# Altium footprint library CONN_TBLOCK_8P25to15P0.PcbLib: 118 footprints (part 4 of 8)
Each footprint in its own frame and in the unit in brackets; x right, y up, seen from the top. Pads: shape width x height; smd on the part's side, far side on the other; paste and mask are expansions set on the pad; w line width, h text height; cw(c..) or ccw(c..) is an arc to the next point about the centre after c.
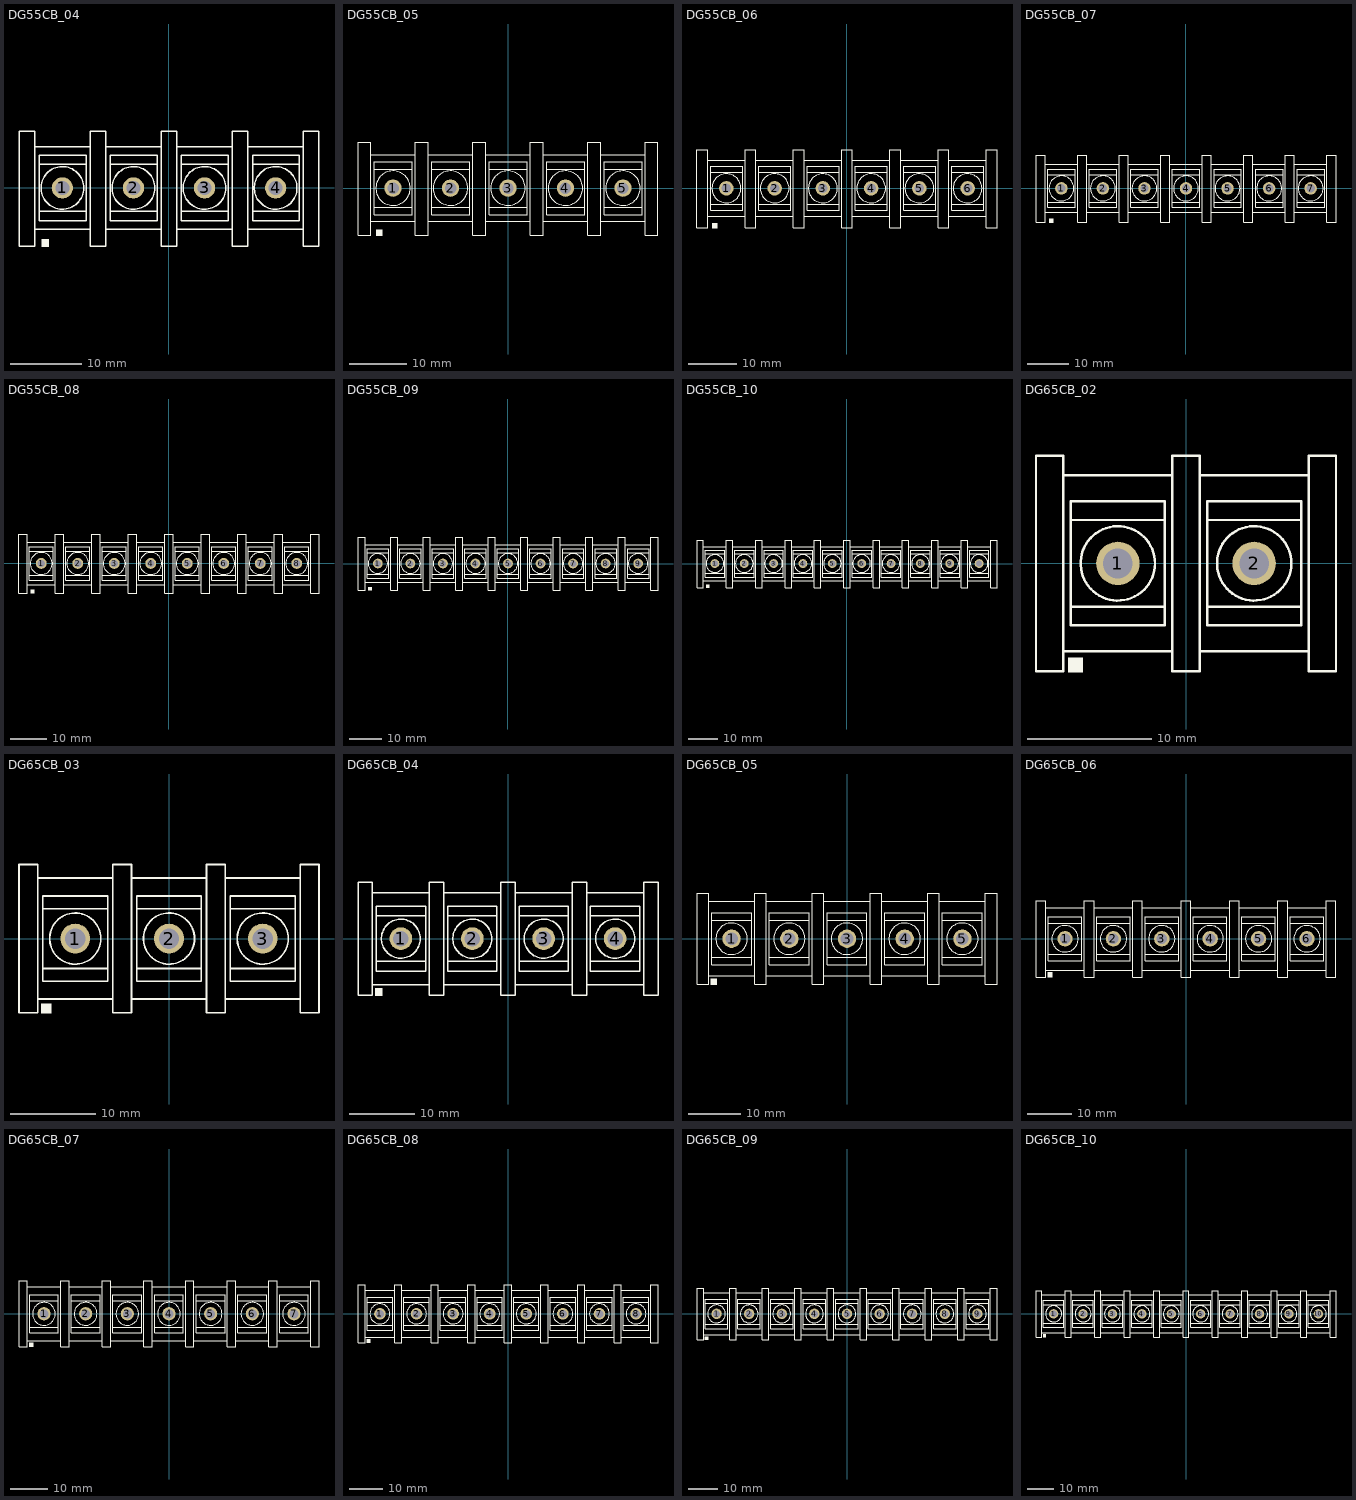
[diagram p3: the footprints below, top view; thin cyan lines are the x and y axes]

## DG55CB_04 [mm] "Terminal Block Screw, Pitch 10mm, 20A/300v, DG55C-B= KF55"
height 18.4
pads (4):
  round 3 / inner round 3 / far side oval 3.5x5 hole 2: 1(-15,0) 2(-5,0) 3(5,0) 4(15,0)
Top Overlay:
  circle w0.2: c-15,0 r3
  circle w0.2: c-5,0 r3
  circle w0.2: c5,0 r3
  circle w0.2: c15,0 r3
  rectangle: -17.95,-8.3 -16.85,-7.2
  lines w0.2: -18.9,-5.8 -11.1,-5.8 ; -18.9,5.8 -11.1,5.8 ; -18.25,-3.3 -11.65,-3.3 ; -18.25,3.3 -11.65,3.3 ; -8.9,-5.8 -1.1,-5.8 ; -8.9,5.8 -1.1,5.8 ; -8.25,-3.3 -1.65,-3.3 ; -8.25,3.3 -1.65,3.3 ; 1.1,-5.8 8.9,-5.8 ; 1.1,5.8 8.9,5.8 ; 1.75,-3.3 8.35,-3.3 ; 1.75,3.3 8.35,3.3 ; 11.1,-5.8 18.9,-5.8 ; 11.1,5.8 18.9,5.8 ; 11.75,-3.3 18.35,-3.3 ; 11.75,3.3 18.35,3.3 ; -21.1,-8.2 -18.9,-8.2 -18.9,8 -21.1,8 -21.1,-8.2 ; -18.25,-4.6 -11.65,-4.6 -11.65,4.6 -18.25,4.6 -18.25,-4.6 ; -11.1,-8.2 -11.1,8 -8.9,8 -8.9,-8.2 -11.1,-8.2 ; -8.25,-4.6 -1.65,-4.6 -1.65,4.6 -8.25,4.6 -8.25,-4.6 ; -1.1,-8.2 -1.1,8 1.1,8 1.1,-8.2 -1.1,-8.2 ; 1.75,-4.6 8.35,-4.6 8.35,4.6 1.75,4.6 1.75,-4.6 ; 8.9,-8.2 8.9,8 11.1,8 11.1,-8.2 8.9,-8.2 ; 11.75,-4.6 18.35,-4.6 18.35,4.6 11.75,4.6 11.75,-4.6 ; 18.9,-8.2 18.9,8 21.1,8 21.1,-8.2 18.9,-8.2
3D body "DG55C-02P.STEP": height 17.43, standoff -6.73, extent -1.028,-8.1 21.028,7.9
3D body "DG55C-02P.STEP": height 17.43, standoff -6.73, extent -21.028,-8.1 1.028,7.9

## DG55CB_05 [mm] "Terminal Block Screw, Pitch 10mm, 20A/300v, DG55C-B= KF55"
height 18.4
pads (5):
  round 3 / inner round 3 / far side oval 3.5x5 hole 2: 1(-20,0) 2(-10,0) 3(0,0) 4(10,0) 5(20,0)
Top Overlay:
  circle w0.2: c20,0 r3
  circle w0.2: c10,0 r3
  circle w0.2: c0,0 r3
  circle w0.2: c-10,0 r3
  circle w0.2: c-20,0 r3
  rectangle: -22.95,-8.3 -21.85,-7.2
  lines w0.2: -23.9,-5.8 -16.1,-5.8 ; -23.9,5.8 -16.1,5.8 ; -23.25,-3.3 -16.65,-3.3 ; -23.25,3.3 -16.65,3.3 ; -13.9,-5.8 -6.1,-5.8 ; -13.9,5.8 -6.1,5.8 ; -13.25,-3.3 -6.65,-3.3 ; -13.25,3.3 -6.65,3.3 ; -3.9,-5.8 3.9,-5.8 ; -3.9,5.8 3.9,5.8 ; -3.25,-3.3 3.35,-3.3 ; -3.25,3.3 3.35,3.3 ; 6.1,-5.8 13.9,-5.8 ; 6.1,5.8 13.9,5.8 ; 6.75,-3.3 13.35,-3.3 ; 6.75,3.3 13.35,3.3 ; 16.1,-5.8 23.9,-5.8 ; 16.1,5.8 23.9,5.8 ; 16.75,-3.3 23.35,-3.3 ; 16.75,3.3 23.35,3.3 ; -26.1,-8.2 -26.1,8 -23.9,8 -23.9,-8.2 -26.1,-8.2 ; -23.25,-4.6 -23.25,4.6 -16.65,4.6 -16.65,-4.6 -23.25,-4.6 ; -16.1,-8.2 -13.9,-8.2 -13.9,8 -16.1,8 -16.1,-8.2 ; -13.25,-4.6 -13.25,4.6 -6.65,4.6 -6.65,-4.6 -13.25,-4.6 ; -6.1,-8.2 -3.9,-8.2 -3.9,8 -6.1,8 -6.1,-8.2 ; -3.25,-4.6 -3.25,4.6 3.35,4.6 3.35,-4.6 -3.25,-4.6 ; 3.9,-8.2 6.1,-8.2 6.1,8 3.9,8 3.9,-8.2 ; 6.75,-4.6 6.75,4.6 13.35,4.6 13.35,-4.6 6.75,-4.6 ; 13.9,-8.2 16.1,-8.2 16.1,8 13.9,8 13.9,-8.2 ; 16.75,-4.6 16.75,4.6 23.35,4.6 23.35,-4.6 16.75,-4.6 ; 23.9,-8.2 26.1,-8.2 26.1,8 23.9,8 23.9,-8.2
3D body "DG55C-02P.STEP": height 17.43, standoff -6.73, extent -26.028,-8.1 -3.972,7.9
3D body "DG55C-02P.STEP": height 17.43, standoff -6.73, extent -6.028,-8.1 16.028,7.9
3D body "DG55C-02P.STEP": height 17.43, standoff -6.73, extent 3.972,-8.1 26.028,7.9

## DG55CB_06 [mm] "Terminal Block Screw, Pitch 10mm, 20A/300v, DG55C-B= KF55"
height 18.4
pads (6):
  round 3 / inner round 3 / far side oval 3.5x5 hole 2: 1(-25,0) 2(-15,0) 3(-5,0) 4(5,0) 5(15,0) 6(25,0)
Top Overlay:
  circle w0.2: c-25,0 r3
  circle w0.2: c-15,0 r3
  circle w0.2: c-5,0 r3
  circle w0.2: c5,0 r3
  circle w0.2: c15,0 r3
  circle w0.2: c25,0 r3
  rectangle: -27.95,-8.3 -26.85,-7.2
  lines w0.2: -28.9,-5.8 -21.1,-5.8 ; -28.9,5.8 -21.1,5.8 ; -28.25,-3.3 -21.65,-3.3 ; -28.25,3.3 -21.65,3.3 ; -18.9,-5.8 -11.1,-5.8 ; -18.9,5.8 -11.1,5.8 ; -18.25,-3.3 -11.65,-3.3 ; -18.25,3.3 -11.65,3.3 ; -8.9,-5.8 -1.1,-5.8 ; -8.9,5.8 -1.1,5.8 ; -8.25,-3.3 -1.65,-3.3 ; -8.25,3.3 -1.65,3.3 ; 1.1,-5.8 8.9,-5.8 ; 1.1,5.8 8.9,5.8 ; 1.75,-3.3 8.35,-3.3 ; 1.75,3.3 8.35,3.3 ; 11.1,-5.8 18.9,-5.8 ; 11.1,5.8 18.9,5.8 ; 11.75,-3.3 18.35,-3.3 ; 11.75,3.3 18.35,3.3 ; 21.1,-5.8 28.9,-5.8 ; 21.1,5.8 28.9,5.8 ; 21.75,-3.3 28.35,-3.3 ; 21.75,3.3 28.35,3.3 ; -31.1,-8.2 -28.9,-8.2 -28.9,8 -31.1,8 -31.1,-8.2 ; -28.25,-4.6 -21.65,-4.6 -21.65,4.6 -28.25,4.6 -28.25,-4.6 ; -21.1,-8.2 -21.1,8 -18.9,8 -18.9,-8.2 -21.1,-8.2 ; -18.25,-4.6 -11.65,-4.6 -11.65,4.6 -18.25,4.6 -18.25,-4.6 ; -11.1,-8.2 -11.1,8 -8.9,8 -8.9,-8.2 -11.1,-8.2 ; -8.25,-4.6 -1.65,-4.6 -1.65,4.6 -8.25,4.6 -8.25,-4.6 ; -1.1,-8.2 -1.1,8 1.1,8 1.1,-8.2 -1.1,-8.2 ; 1.75,-4.6 8.35,-4.6 8.35,4.6 1.75,4.6 1.75,-4.6 ; 8.9,-8.2 8.9,8 11.1,8 11.1,-8.2 8.9,-8.2 ; 11.75,-4.6 18.35,-4.6 18.35,4.6 11.75,4.6 11.75,-4.6 ; 18.9,-8.2 18.9,8 21.1,8 21.1,-8.2 18.9,-8.2 ; 21.75,-4.6 28.35,-4.6 28.35,4.6 21.75,4.6 21.75,-4.6 ; 28.9,-8.2 28.9,8 31.1,8 31.1,-8.2 28.9,-8.2
3D body "DG55C-02P.STEP": height 17.43, standoff -6.73, extent 8.972,-8.1 31.028,7.9
3D body "DG55C-02P.STEP": height 17.43, standoff -6.73, extent -11.028,-8.1 11.028,7.9
3D body "DG55C-02P.STEP": height 17.43, standoff -6.73, extent -31.028,-8.1 -8.972,7.9

## DG55CB_07 [mm] "Terminal Block Screw, Pitch 10mm, 20A/300v, DG55C-B= KF55"
height 18.4
pads (7):
  round 3 / inner round 3 / far side oval 3.5x5 hole 2: 1(-30,0) 2(-20,0) 3(-10,0) 4(0,0) 5(10,0) 6(20,0) 7(30,0)
Top Overlay:
  circle w0.2: c-30,0 r3
  circle w0.2: c-20,0 r3
  circle w0.2: c-10,0 r3
  circle w0.2: c0,0 r3
  circle w0.2: c10,0 r3
  circle w0.2: c20,0 r3
  circle w0.2: c30,0 r3
  rectangle: -32.95,-8.3 -31.85,-7.2
  lines w0.2: -33.9,-5.8 -26.1,-5.8 ; -33.9,5.8 -26.1,5.8 ; -33.25,-3.3 -26.65,-3.3 ; -33.25,3.3 -26.65,3.3 ; -23.9,-5.8 -16.1,-5.8 ; -23.9,5.8 -16.1,5.8 ; -23.25,-3.3 -16.65,-3.3 ; -23.25,3.3 -16.65,3.3 ; -13.9,-5.8 -6.1,-5.8 ; -13.9,5.8 -6.1,5.8 ; -13.25,-3.3 -6.65,-3.3 ; -13.25,3.3 -6.65,3.3 ; -3.9,-5.8 3.9,-5.8 ; -3.9,5.8 3.9,5.8 ; -3.25,-3.3 3.35,-3.3 ; -3.25,3.3 3.35,3.3 ; 6.1,-5.8 13.9,-5.8 ; 6.1,5.8 13.9,5.8 ; 6.75,-3.3 13.35,-3.3 ; 6.75,3.3 13.35,3.3 ; 16.1,-5.8 23.9,-5.8 ; 16.1,5.8 23.9,5.8 ; 16.75,-3.3 23.35,-3.3 ; 16.75,3.3 23.35,3.3 ; 26.1,-5.8 33.9,-5.8 ; 26.1,5.8 33.9,5.8 ; 26.75,-3.3 33.35,-3.3 ; 26.75,3.3 33.35,3.3 ; -36.1,-8.2 -33.9,-8.2 -33.9,8 -36.1,8 -36.1,-8.2 ; -33.25,-4.6 -26.65,-4.6 -26.65,4.6 -33.25,4.6 -33.25,-4.6 ; -26.1,-8.2 -26.1,8 -23.9,8 -23.9,-8.2 -26.1,-8.2 ; -23.25,-4.6 -16.65,-4.6 -16.65,4.6 -23.25,4.6 -23.25,-4.6 ; -16.1,-8.2 -16.1,8 -13.9,8 -13.9,-8.2 -16.1,-8.2 ; -13.25,-4.6 -6.65,-4.6 -6.65,4.6 -13.25,4.6 -13.25,-4.6 ; -6.1,-8.2 -6.1,8 -3.9,8 -3.9,-8.2 -6.1,-8.2 ; -3.25,-4.6 3.35,-4.6 3.35,4.6 -3.25,4.6 -3.25,-4.6 ; 3.9,-8.2 3.9,8 6.1,8 6.1,-8.2 3.9,-8.2 ; 6.75,-4.6 13.35,-4.6 13.35,4.6 6.75,4.6 6.75,-4.6 ; 13.9,-8.2 13.9,8 16.1,8 16.1,-8.2 13.9,-8.2 ; 16.75,-4.6 23.35,-4.6 23.35,4.6 16.75,4.6 16.75,-4.6 ; 23.9,-8.2 23.9,8 26.1,8 26.1,-8.2 23.9,-8.2 ; 26.75,-4.6 33.35,-4.6 33.35,4.6 26.75,4.6 26.75,-4.6 ; 33.9,-8.2 33.9,8 36.1,8 36.1,-8.2 33.9,-8.2
3D body "DG55C-02P.STEP": height 17.43, standoff -6.73, extent 13.972,-8.1 36.028,7.9
3D body "DG55C-02P.STEP": height 17.43, standoff -6.73, extent 3.972,-8.1 26.028,7.9
3D body "DG55C-02P.STEP": height 17.43, standoff -6.73, extent -16.028,-8.1 6.028,7.9
3D body "DG55C-02P.STEP": height 17.43, standoff -6.73, extent -36.028,-8.1 -13.972,7.9

## DG55CB_08 [mm] "Terminal Block Screw, Pitch 10mm, 20A/300v, DG55C-B= KF55"
height 18.4
pads (8):
  round 3 / inner round 3 / far side oval 3.5x5 hole 2: 1(-35,0) 2(-25,0) 3(-15,0) 4(-5,0) 5(5,0) 6(15,0) 7(25,0) 8(35,0)
Top Overlay:
  circle w0.2: c35,0 r3
  circle w0.2: c25,0 r3
  circle w0.2: c15,0 r3
  circle w0.2: c5,0 r3
  circle w0.2: c-5,0 r3
  circle w0.2: c-15,0 r3
  circle w0.2: c-25,0 r3
  circle w0.2: c-35,0 r3
  rectangle: -37.95,-8.3 -36.85,-7.2
  lines w0.2: -38.9,-5.8 -31.1,-5.8 ; -38.9,5.8 -31.1,5.8 ; -38.25,-3.3 -31.65,-3.3 ; -38.25,3.3 -31.65,3.3 ; -28.9,-5.8 -21.1,-5.8 ; -28.9,5.8 -21.1,5.8 ; -28.25,-3.3 -21.65,-3.3 ; -28.25,3.3 -21.65,3.3 ; -18.9,-5.8 -11.1,-5.8 ; -18.9,5.8 -11.1,5.8 ; -18.25,-3.3 -11.65,-3.3 ; -18.25,3.3 -11.65,3.3 ; -8.9,-5.8 -1.1,-5.8 ; -8.9,5.8 -1.1,5.8 ; -8.25,-3.3 -1.65,-3.3 ; -8.25,3.3 -1.65,3.3 ; 1.1,-5.8 8.9,-5.8 ; 1.1,5.8 8.9,5.8 ; 1.75,-3.3 8.35,-3.3 ; 1.75,3.3 8.35,3.3 ; 11.1,-5.8 18.9,-5.8 ; 11.1,5.8 18.9,5.8 ; 11.75,-3.3 18.35,-3.3 ; 11.75,3.3 18.35,3.3 ; 21.1,-5.8 28.9,-5.8 ; 21.1,5.8 28.9,5.8 ; 21.75,-3.3 28.35,-3.3 ; 21.75,3.3 28.35,3.3 ; 31.1,-5.8 38.9,-5.8 ; 31.1,5.8 38.9,5.8 ; 31.75,-3.3 38.35,-3.3 ; 31.75,3.3 38.35,3.3 ; -41.1,-8.2 -41.1,8 -38.9,8 -38.9,-8.2 -41.1,-8.2 ; -38.25,-4.6 -38.25,4.6 -31.65,4.6 -31.65,-4.6 -38.25,-4.6 ; -31.1,-8.2 -28.9,-8.2 -28.9,8 -31.1,8 -31.1,-8.2 ; -28.25,-4.6 -28.25,4.6 -21.65,4.6 -21.65,-4.6 -28.25,-4.6 ; -21.1,-8.2 -18.9,-8.2 -18.9,8 -21.1,8 -21.1,-8.2 ; -18.25,-4.6 -18.25,4.6 -11.65,4.6 -11.65,-4.6 -18.25,-4.6 ; -11.1,-8.2 -8.9,-8.2 -8.9,8 -11.1,8 -11.1,-8.2 ; -8.25,-4.6 -8.25,4.6 -1.65,4.6 -1.65,-4.6 -8.25,-4.6 ; -1.1,-8.2 1.1,-8.2 1.1,8 -1.1,8 -1.1,-8.2 ; 1.75,-4.6 1.75,4.6 8.35,4.6 8.35,-4.6 1.75,-4.6 ; 8.9,-8.2 11.1,-8.2 11.1,8 8.9,8 8.9,-8.2 ; 11.75,-4.6 11.75,4.6 18.35,4.6 18.35,-4.6 11.75,-4.6 ; 18.9,-8.2 21.1,-8.2 21.1,8 18.9,8 18.9,-8.2 ; 21.75,-4.6 21.75,4.6 28.35,4.6 28.35,-4.6 21.75,-4.6 ; 28.9,-8.2 31.1,-8.2 31.1,8 28.9,8 28.9,-8.2 ; 31.75,-4.6 31.75,4.6 38.35,4.6 38.35,-4.6 31.75,-4.6 ; 38.9,-8.2 41.1,-8.2 41.1,8 38.9,8 38.9,-8.2
3D body "DG55C-02P.STEP": height 17.43, standoff -6.73, extent -41.028,-8.1 -18.972,7.9
3D body "DG55C-02P.STEP": height 17.43, standoff -6.73, extent -21.028,-8.1 1.028,7.9
3D body "DG55C-02P.STEP": height 17.43, standoff -6.73, extent -1.028,-8.1 21.028,7.9
3D body "DG55C-02P.STEP": height 17.43, standoff -6.73, extent 18.972,-8.1 41.028,7.9

## DG55CB_09 [mm] "Terminal Block Screw, Pitch 10mm, 20A/300v, DG55C-B= KF55"
height 18.4
pads (9):
  round 3 / inner round 3 / far side oval 3.5x5 hole 2: 1(-40,0) 2(-30,0) 3(-20,0) 4(-10,0) 5(0,0) 6(10,0) 7(20,0) 8(30,0) 9(40,0)
Top Overlay:
  circle w0.2: c40,0 r3
  circle w0.2: c30,0 r3
  circle w0.2: c20,0 r3
  circle w0.2: c10,0 r3
  circle w0.2: c0,0 r3
  circle w0.2: c-10,0 r3
  circle w0.2: c-20,0 r3
  circle w0.2: c-30,0 r3
  circle w0.2: c-40,0 r3
  rectangle: -42.95,-8.3 -41.85,-7.2
  lines w0.2: -43.9,-5.8 -36.1,-5.8 ; -43.9,5.8 -36.1,5.8 ; -43.25,-3.3 -36.65,-3.3 ; -43.25,3.3 -36.65,3.3 ; -33.9,-5.8 -26.1,-5.8 ; -33.9,5.8 -26.1,5.8 ; -33.25,-3.3 -26.65,-3.3 ; -33.25,3.3 -26.65,3.3 ; -23.9,-5.8 -16.1,-5.8 ; -23.9,5.8 -16.1,5.8 ; -23.25,-3.3 -16.65,-3.3 ; -23.25,3.3 -16.65,3.3 ; -13.9,-5.8 -6.1,-5.8 ; -13.9,5.8 -6.1,5.8 ; -13.25,-3.3 -6.65,-3.3 ; -13.25,3.3 -6.65,3.3 ; -3.9,-5.8 3.9,-5.8 ; -3.9,5.8 3.9,5.8 ; -3.25,-3.3 3.35,-3.3 ; -3.25,3.3 3.35,3.3 ; 6.1,-5.8 13.9,-5.8 ; 6.1,5.8 13.9,5.8 ; 6.75,-3.3 13.35,-3.3 ; 6.75,3.3 13.35,3.3 ; 16.1,-5.8 23.9,-5.8 ; 16.1,5.8 23.9,5.8 ; 16.75,-3.3 23.35,-3.3 ; 16.75,3.3 23.35,3.3 ; 26.1,-5.8 33.9,-5.8 ; 26.1,5.8 33.9,5.8 ; 26.75,-3.3 33.35,-3.3 ; 26.75,3.3 33.35,3.3 ; 36.1,-5.8 43.9,-5.8 ; 36.1,5.8 43.9,5.8 ; 36.75,-3.3 43.35,-3.3 ; 36.75,3.3 43.35,3.3 ; -46.1,-8.2 -46.1,8 -43.9,8 -43.9,-8.2 -46.1,-8.2 ; -43.25,-4.6 -43.25,4.6 -36.65,4.6 -36.65,-4.6 -43.25,-4.6 ; -36.1,-8.2 -33.9,-8.2 -33.9,8 -36.1,8 -36.1,-8.2 ; -33.25,-4.6 -33.25,4.6 -26.65,4.6 -26.65,-4.6 -33.25,-4.6 ; -26.1,-8.2 -23.9,-8.2 -23.9,8 -26.1,8 -26.1,-8.2 ; -23.25,-4.6 -23.25,4.6 -16.65,4.6 -16.65,-4.6 -23.25,-4.6 ; -16.1,-8.2 -13.9,-8.2 -13.9,8 -16.1,8 -16.1,-8.2 ; -13.25,-4.6 -13.25,4.6 -6.65,4.6 -6.65,-4.6 -13.25,-4.6 ; -6.1,-8.2 -3.9,-8.2 -3.9,8 -6.1,8 -6.1,-8.2 ; -3.25,-4.6 -3.25,4.6 3.35,4.6 3.35,-4.6 -3.25,-4.6 ; 3.9,-8.2 6.1,-8.2 6.1,8 3.9,8 3.9,-8.2 ; 6.75,-4.6 6.75,4.6 13.35,4.6 13.35,-4.6 6.75,-4.6 ; 13.9,-8.2 16.1,-8.2 16.1,8 13.9,8 13.9,-8.2 ; 16.75,-4.6 16.75,4.6 23.35,4.6 23.35,-4.6 16.75,-4.6 ; 23.9,-8.2 26.1,-8.2 26.1,8 23.9,8 23.9,-8.2 ; 26.75,-4.6 26.75,4.6 33.35,4.6 33.35,-4.6 26.75,-4.6 ; 33.9,-8.2 36.1,-8.2 36.1,8 33.9,8 33.9,-8.2 ; 36.75,-4.6 36.75,4.6 43.35,4.6 43.35,-4.6 36.75,-4.6 ; 43.9,-8.2 46.1,-8.2 46.1,8 43.9,8 43.9,-8.2
3D body "DG55C-02P.STEP": height 17.43, standoff -6.73, extent -46.028,-8.1 -23.972,7.9
3D body "DG55C-02P.STEP": height 17.43, standoff -6.73, extent -26.028,-8.1 -3.972,7.9
3D body "DG55C-02P.STEP": height 17.43, standoff -6.73, extent -6.028,-8.1 16.028,7.9
3D body "DG55C-02P.STEP": height 17.43, standoff -6.73, extent 13.972,-8.1 36.028,7.9
3D body "DG55C-02P.STEP": height 17.43, standoff -6.73, extent 23.972,-8.1 46.028,7.9

## DG55CB_10 [mm] "Terminal Block Screw, Pitch 10mm, 20A/300v, DG55C-B= KF55"
height 18.4
pads (10):
  round 3 / inner round 3 / far side oval 3.5x5 hole 2: 1(-45,0) 2(-35,0) 3(-25,0) 4(-15,0) 5(-5,0) 6(5,0) 7(15,0) 8(25,0) 9(35,0) 10(45,0)
Top Overlay:
  circle w0.2: c-45,0 r3
  circle w0.2: c-35,0 r3
  circle w0.2: c-25,0 r3
  circle w0.2: c-15,0 r3
  circle w0.2: c-5,0 r3
  circle w0.2: c5,0 r3
  circle w0.2: c15,0 r3
  circle w0.2: c25,0 r3
  circle w0.2: c35,0 r3
  circle w0.2: c45,0 r3
  rectangle: -47.95,-8.3 -46.85,-7.2
  lines w0.2: -48.9,-5.8 -41.1,-5.8 ; -48.9,5.8 -41.1,5.8 ; -48.25,-3.3 -41.65,-3.3 ; -48.25,3.3 -41.65,3.3 ; -38.9,-5.8 -31.1,-5.8 ; -38.9,5.8 -31.1,5.8 ; -38.25,-3.3 -31.65,-3.3 ; -38.25,3.3 -31.65,3.3 ; -28.9,-5.8 -21.1,-5.8 ; -28.9,5.8 -21.1,5.8 ; -28.25,-3.3 -21.65,-3.3 ; -28.25,3.3 -21.65,3.3 ; -18.9,-5.8 -11.1,-5.8 ; -18.9,5.8 -11.1,5.8 ; -18.25,-3.3 -11.65,-3.3 ; -18.25,3.3 -11.65,3.3 ; -8.9,-5.8 -1.1,-5.8 ; -8.9,5.8 -1.1,5.8 ; -8.25,-3.3 -1.65,-3.3 ; -8.25,3.3 -1.65,3.3 ; 1.1,-5.8 8.9,-5.8 ; 1.1,5.8 8.9,5.8 ; 1.75,-3.3 8.35,-3.3 ; 1.75,3.3 8.35,3.3 ; 11.1,-5.8 18.9,-5.8 ; 11.1,5.8 18.9,5.8 ; 11.75,-3.3 18.35,-3.3 ; 11.75,3.3 18.35,3.3 ; 21.1,-5.8 28.9,-5.8 ; 21.1,5.8 28.9,5.8 ; 21.75,-3.3 28.35,-3.3 ; 21.75,3.3 28.35,3.3 ; 31.1,-5.8 38.9,-5.8 ; 31.1,5.8 38.9,5.8 ; 31.75,-3.3 38.35,-3.3 ; 31.75,3.3 38.35,3.3 ; 41.1,-5.8 48.9,-5.8 ; 41.1,5.8 48.9,5.8 ; 41.75,-3.3 48.35,-3.3 ; 41.75,3.3 48.35,3.3 ; -51.1,-8.2 -48.9,-8.2 -48.9,8 -51.1,8 -51.1,-8.2 ; -48.25,-4.6 -41.65,-4.6 -41.65,4.6 -48.25,4.6 -48.25,-4.6 ; -41.1,-8.2 -41.1,8 -38.9,8 -38.9,-8.2 -41.1,-8.2 ; -38.25,-4.6 -31.65,-4.6 -31.65,4.6 -38.25,4.6 -38.25,-4.6 ; -31.1,-8.2 -31.1,8 -28.9,8 -28.9,-8.2 -31.1,-8.2 ; -28.25,-4.6 -21.65,-4.6 -21.65,4.6 -28.25,4.6 -28.25,-4.6 ; -21.1,-8.2 -21.1,8 -18.9,8 -18.9,-8.2 -21.1,-8.2 ; -18.25,-4.6 -11.65,-4.6 -11.65,4.6 -18.25,4.6 -18.25,-4.6 ; -11.1,-8.2 -11.1,8 -8.9,8 -8.9,-8.2 -11.1,-8.2 ; -8.25,-4.6 -1.65,-4.6 -1.65,4.6 -8.25,4.6 -8.25,-4.6 ; -1.1,-8.2 -1.1,8 1.1,8 1.1,-8.2 -1.1,-8.2 ; 1.75,-4.6 8.35,-4.6 8.35,4.6 1.75,4.6 1.75,-4.6 ; 8.9,-8.2 8.9,8 11.1,8 11.1,-8.2 8.9,-8.2 ; 11.75,-4.6 18.35,-4.6 18.35,4.6 11.75,4.6 11.75,-4.6 ; 18.9,-8.2 18.9,8 21.1,8 21.1,-8.2 18.9,-8.2 ; 21.75,-4.6 28.35,-4.6 28.35,4.6 21.75,4.6 21.75,-4.6 ; 28.9,-8.2 28.9,8 31.1,8 31.1,-8.2 28.9,-8.2 ; 31.75,-4.6 38.35,-4.6 38.35,4.6 31.75,4.6 31.75,-4.6 ; 38.9,-8.2 38.9,8 41.1,8 41.1,-8.2 38.9,-8.2 ; 41.75,-4.6 48.35,-4.6 48.35,4.6 41.75,4.6 41.75,-4.6 ; 48.9,-8.2 48.9,8 51.1,8 51.1,-8.2 48.9,-8.2
3D body "DG55C-02P.STEP": height 17.43, standoff -6.73, extent 28.972,-8.1 51.028,7.9
3D body "DG55C-02P.STEP": height 17.43, standoff -6.73, extent 8.972,-8.1 31.028,7.9
3D body "DG55C-02P.STEP": height 17.43, standoff -6.73, extent -11.028,-8.1 11.028,7.9
3D body "DG55C-02P.STEP": height 17.43, standoff -6.73, extent -31.028,-8.1 -8.972,7.9
3D body "DG55C-02P.STEP": height 17.43, standoff -6.73, extent -51.028,-8.1 -28.972,7.9

## DG65CB_02 [mm] "Terminal Block Screw, Pitch 11mm, 20A/300v, DG65C-B= KF65"
height 18
pads (2):
  round 3.5 / inner round 3.5 / far side oval 4x6 hole 2.4: 1(-5.5,0) 2(5.5,0)
Top Overlay:
  circle w0.2: c-5.5,0 r3
  circle w0.2: c5.5,0 r3
  rectangle: -9.5,-8.8 -8.3,-7.6
  lines w0.2: -9.9,-7.1 -1.1,-7.1 ; -9.9,7.1 -1.1,7.1 ; -9.3,-3.5 -1.7,-3.5 ; -9.3,3.5 -1.7,3.5 ; 1.1,-7.1 9.9,-7.1 ; 1.1,7.1 9.9,7.1 ; 1.7,-3.5 9.3,-3.5 ; 1.7,3.5 9.3,3.5 ; -12.1,-8.7 -12.1,8.7 -9.9,8.7 -9.9,-8.7 -12.1,-8.7 ; -9.3,-5 -9.3,5 -1.7,5 -1.7,-5 -9.3,-5 ; -1.1,-8.7 1.1,-8.7 1.1,8.7 -1.1,8.7 -1.1,-8.7 ; 1.7,-5 9.3,-5 9.3,5 1.7,5 1.7,-5 ; 9.9,-8.7 12.1,-8.7 12.1,8.7 9.9,8.7 9.9,-8.7
3D body "DG65C-B-02P.stp": height 18.05, standoff -6.24, extent -12,-8.65 12,8.65

## DG65CB_03 [mm] "Terminal Block Screw, Pitch 11mm, 20A/300v, DG65C-B= KF65"
height 18
pads (3):
  round 3.5 / inner round 3.5 / far side oval 4x6 hole 2.4: 1(-11,0) 2(0,0) 3(11,0)
Top Overlay:
  circle w0.2: c11,0 r3
  circle w0.2: c0,0 r3
  circle w0.2: c-11,0 r3
  rectangle: -15,-8.8 -13.8,-7.6
  lines w0.2: -15.4,-7.1 -6.6,-7.1 ; -15.4,7.1 -6.6,7.1 ; -14.8,-3.5 -7.2,-3.5 ; -14.8,3.5 -7.2,3.5 ; -4.4,-7.1 4.4,-7.1 ; -4.4,7.1 4.4,7.1 ; -3.8,-3.5 3.8,-3.5 ; -3.8,3.5 3.8,3.5 ; 6.6,-7.1 15.4,-7.1 ; 6.6,7.1 15.4,7.1 ; 7.2,-3.5 14.8,-3.5 ; 7.2,3.5 14.8,3.5 ; -17.6,-8.7 -15.4,-8.7 -15.4,8.7 -17.6,8.7 -17.6,-8.7 ; -14.8,-5 -7.2,-5 -7.2,5 -14.8,5 -14.8,-5 ; -6.6,-8.7 -6.6,8.7 -4.4,8.7 -4.4,-8.7 -6.6,-8.7 ; -3.8,-5 -3.8,5 3.8,5 3.8,-5 -3.8,-5 ; 4.4,-8.7 4.4,8.7 6.6,8.7 6.6,-8.7 4.4,-8.7 ; 7.2,-5 7.2,5 14.8,5 14.8,-5 7.2,-5 ; 15.4,-8.7 15.4,8.7 17.6,8.7 17.6,-8.7 15.4,-8.7
3D body "DG65C-B-03P.stp": height 18.05, standoff -6.24, extent -17.5,-8.65 17.5,8.65

## DG65CB_04 [mm] "Terminal Block Screw, Pitch 11mm, 20A/300v, DG65C-B= KF65"
height 18
pads (4):
  round 3.5 / inner round 3.5 / far side oval 4x6 hole 2.4: 1(-16.5,0) 2(-5.5,0) 3(5.5,0) 4(16.5,0)
Top Overlay:
  circle w0.2: c16.5,0 r3
  circle w0.2: c5.5,0 r3
  circle w0.2: c-5.5,0 r3
  circle w0.2: c-16.5,0 r3
  rectangle: -20.5,-8.8 -19.3,-7.6
  lines w0.2: -20.9,-7.1 -12.1,-7.1 ; -20.9,7.1 -12.1,7.1 ; -20.3,-3.5 -12.7,-3.5 ; -20.3,3.5 -12.7,3.5 ; -9.9,-7.1 -1.1,-7.1 ; -9.9,7.1 -1.1,7.1 ; -9.3,-3.5 -1.7,-3.5 ; -9.3,3.5 -1.7,3.5 ; 1.1,-7.1 9.9,-7.1 ; 1.1,7.1 9.9,7.1 ; 1.7,-3.5 9.3,-3.5 ; 1.7,3.5 9.3,3.5 ; 12.1,-7.1 20.9,-7.1 ; 12.1,7.1 20.9,7.1 ; 12.7,-3.5 20.3,-3.5 ; 12.7,3.5 20.3,3.5 ; -23.1,-8.7 -20.9,-8.7 -20.9,8.7 -23.1,8.7 -23.1,-8.7 ; -20.3,-5 -12.7,-5 -12.7,5 -20.3,5 -20.3,-5 ; -12.1,-8.7 -12.1,8.7 -9.9,8.7 -9.9,-8.7 -12.1,-8.7 ; -9.3,-5 -9.3,5 -1.7,5 -1.7,-5 -9.3,-5 ; -1.1,-8.7 -1.1,8.7 1.1,8.7 1.1,-8.7 -1.1,-8.7 ; 1.7,-5 1.7,5 9.3,5 9.3,-5 1.7,-5 ; 9.9,-8.7 9.9,8.7 12.1,8.7 12.1,-8.7 9.9,-8.7 ; 12.7,-5 12.7,5 20.3,5 20.3,-5 12.7,-5 ; 20.9,-8.7 20.9,8.7 23.1,8.7 23.1,-8.7 20.9,-8.7
3D body "DG65C-B-02P.stp": height 18.05, standoff -6.24, extent -1,-8.65 23,8.65
3D body "DG65C-B-02P.stp": height 18.05, standoff -6.24, extent -23,-8.65 1,8.65

## DG65CB_05 [mm] "Terminal Block Screw, Pitch 11mm, 20A/300v, DG65C-B= KF65"
height 18
pads (5):
  round 3.5 / inner round 3.5 / far side oval 4x6 hole 2.4: 1(-22,0) 2(-11,0) 3(0,0) 4(11,0) 5(22,0)
Top Overlay:
  circle w0.2: c-22,0 r3
  circle w0.2: c-11,0 r3
  circle w0.2: c0,0 r3
  circle w0.2: c11,0 r3
  circle w0.2: c22,0 r3
  rectangle: -26,-8.8 -24.8,-7.6
  lines w0.2: -26.4,-7.1 -17.6,-7.1 ; -26.4,7.1 -17.6,7.1 ; -25.8,-3.5 -18.2,-3.5 ; -25.8,3.5 -18.2,3.5 ; -15.4,-7.1 -6.6,-7.1 ; -15.4,7.1 -6.6,7.1 ; -14.8,-3.5 -7.2,-3.5 ; -14.8,3.5 -7.2,3.5 ; -4.4,-7.1 4.4,-7.1 ; -4.4,7.1 4.4,7.1 ; -3.8,-3.5 3.8,-3.5 ; -3.8,3.5 3.8,3.5 ; 6.6,-7.1 15.4,-7.1 ; 6.6,7.1 15.4,7.1 ; 7.2,-3.5 14.8,-3.5 ; 7.2,3.5 14.8,3.5 ; 17.6,-7.1 26.4,-7.1 ; 17.6,7.1 26.4,7.1 ; 18.2,-3.5 25.8,-3.5 ; 18.2,3.5 25.8,3.5 ; -28.6,-8.7 -28.6,8.7 -26.4,8.7 -26.4,-8.7 -28.6,-8.7 ; -25.8,-5 -25.8,5 -18.2,5 -18.2,-5 -25.8,-5 ; -17.6,-8.7 -15.4,-8.7 -15.4,8.7 -17.6,8.7 -17.6,-8.7 ; -14.8,-5 -7.2,-5 -7.2,5 -14.8,5 -14.8,-5 ; -6.6,-8.7 -4.4,-8.7 -4.4,8.7 -6.6,8.7 -6.6,-8.7 ; -3.8,-5 3.8,-5 3.8,5 -3.8,5 -3.8,-5 ; 4.4,-8.7 6.6,-8.7 6.6,8.7 4.4,8.7 4.4,-8.7 ; 7.2,-5 14.8,-5 14.8,5 7.2,5 7.2,-5 ; 15.4,-8.7 17.6,-8.7 17.6,8.7 15.4,8.7 15.4,-8.7 ; 18.2,-5 25.8,-5 25.8,5 18.2,5 18.2,-5 ; 26.4,-8.7 28.6,-8.7 28.6,8.7 26.4,8.7 26.4,-8.7
3D body "DG65C-B-02P.stp": height 18.05, standoff -6.24, extent -28.5,-8.65 -4.5,8.65
3D body "DG65C-B-03P.stp": height 18.05, standoff -6.24, extent -6.5,-8.65 28.5,8.65

## DG65CB_06 [mm] "Terminal Block Screw, Pitch 11mm, 20A/300v, DG65C-B= KF65"
height 18
pads (6):
  round 3.5 / inner round 3.5 / far side oval 4x6 hole 2.4: 1(-27.5,0) 2(-16.5,0) 3(-5.5,0) 4(5.5,0) 5(16.5,0) 6(27.5,0)
Top Overlay:
  circle w0.2: c-27.5,0 r3
  circle w0.2: c-16.5,0 r3
  circle w0.2: c-5.5,0 r3
  circle w0.2: c5.5,0 r3
  circle w0.2: c16.5,0 r3
  circle w0.2: c27.5,0 r3
  rectangle: -31.5,-8.8 -30.3,-7.6
  lines w0.2: -31.9,-7.1 -23.1,-7.1 ; -31.9,7.1 -23.1,7.1 ; -31.3,-3.5 -23.7,-3.5 ; -31.3,3.5 -23.7,3.5 ; -20.9,-7.1 -12.1,-7.1 ; -20.9,7.1 -12.1,7.1 ; -20.3,-3.5 -12.7,-3.5 ; -20.3,3.5 -12.7,3.5 ; -9.9,-7.1 -1.1,-7.1 ; -9.9,7.1 -1.1,7.1 ; -9.3,-3.5 -1.7,-3.5 ; -9.3,3.5 -1.7,3.5 ; 1.1,-7.1 9.9,-7.1 ; 1.1,7.1 9.9,7.1 ; 1.7,-3.5 9.3,-3.5 ; 1.7,3.5 9.3,3.5 ; 12.1,-7.1 20.9,-7.1 ; 12.1,7.1 20.9,7.1 ; 12.7,-3.5 20.3,-3.5 ; 12.7,3.5 20.3,3.5 ; 23.1,-7.1 31.9,-7.1 ; 23.1,7.1 31.9,7.1 ; 23.7,-3.5 31.3,-3.5 ; 23.7,3.5 31.3,3.5 ; -34.1,-8.7 -34.1,8.7 -31.9,8.7 -31.9,-8.7 -34.1,-8.7 ; -31.3,-5 -31.3,5 -23.7,5 -23.7,-5 -31.3,-5 ; -23.1,-8.7 -20.9,-8.7 -20.9,8.7 -23.1,8.7 -23.1,-8.7 ; -20.3,-5 -12.7,-5 -12.7,5 -20.3,5 -20.3,-5 ; -12.1,-8.7 -9.9,-8.7 -9.9,8.7 -12.1,8.7 -12.1,-8.7 ; -9.3,-5 -1.7,-5 -1.7,5 -9.3,5 -9.3,-5 ; -1.1,-8.7 1.1,-8.7 1.1,8.7 -1.1,8.7 -1.1,-8.7 ; 1.7,-5 9.3,-5 9.3,5 1.7,5 1.7,-5 ; 9.9,-8.7 12.1,-8.7 12.1,8.7 9.9,8.7 9.9,-8.7 ; 12.7,-5 20.3,-5 20.3,5 12.7,5 12.7,-5 ; 20.9,-8.7 23.1,-8.7 23.1,8.7 20.9,8.7 20.9,-8.7 ; 23.7,-5 31.3,-5 31.3,5 23.7,5 23.7,-5 ; 31.9,-8.7 34.1,-8.7 34.1,8.7 31.9,8.7 31.9,-8.7
3D body "DG65C-B-03P.stp": height 18.05, standoff -6.24, extent -1,-8.65 34,8.65
3D body "DG65C-B-03P.stp": height 18.05, standoff -6.24, extent -34,-8.65 1,8.65

## DG65CB_07 [mm] "Terminal Block Screw, Pitch 11mm, 20A/300v, DG65C-B= KF65"
height 18
pads (7):
  round 3.5 / inner round 3.5 / far side oval 4x6 hole 2.4: 1(-33,0) 2(-22,0) 3(-11,0) 4(0,0) 5(11,0) 6(22,0) 7(33,0)
Top Overlay:
  circle w0.2: c33,0 r3
  circle w0.2: c22,0 r3
  circle w0.2: c11,0 r3
  circle w0.2: c0,0 r3
  circle w0.2: c-11,0 r3
  circle w0.2: c-22,0 r3
  circle w0.2: c-33,0 r3
  rectangle: -37,-8.8 -35.8,-7.6
  lines w0.2: -37.4,-7.1 -28.6,-7.1 ; -37.4,7.1 -28.6,7.1 ; -36.8,-3.5 -29.2,-3.5 ; -36.8,3.5 -29.2,3.5 ; -26.4,-7.1 -17.6,-7.1 ; -26.4,7.1 -17.6,7.1 ; -25.8,-3.5 -18.2,-3.5 ; -25.8,3.5 -18.2,3.5 ; -15.4,-7.1 -6.6,-7.1 ; -15.4,7.1 -6.6,7.1 ; -14.8,-3.5 -7.2,-3.5 ; -14.8,3.5 -7.2,3.5 ; -4.4,-7.1 4.4,-7.1 ; -4.4,7.1 4.4,7.1 ; -3.8,-3.5 3.8,-3.5 ; -3.8,3.5 3.8,3.5 ; 6.6,-7.1 15.4,-7.1 ; 6.6,7.1 15.4,7.1 ; 7.2,-3.5 14.8,-3.5 ; 7.2,3.5 14.8,3.5 ; 17.6,-7.1 26.4,-7.1 ; 17.6,7.1 26.4,7.1 ; 18.2,-3.5 25.8,-3.5 ; 18.2,3.5 25.8,3.5 ; 28.6,-7.1 37.4,-7.1 ; 28.6,7.1 37.4,7.1 ; 29.2,-3.5 36.8,-3.5 ; 29.2,3.5 36.8,3.5 ; -39.6,-8.7 -37.4,-8.7 -37.4,8.7 -39.6,8.7 -39.6,-8.7 ; -36.8,-5 -29.2,-5 -29.2,5 -36.8,5 -36.8,-5 ; -28.6,-8.7 -28.6,8.7 -26.4,8.7 -26.4,-8.7 -28.6,-8.7 ; -25.8,-5 -25.8,5 -18.2,5 -18.2,-5 -25.8,-5 ; -17.6,-8.7 -17.6,8.7 -15.4,8.7 -15.4,-8.7 -17.6,-8.7 ; -14.8,-5 -14.8,5 -7.2,5 -7.2,-5 -14.8,-5 ; -6.6,-8.7 -6.6,8.7 -4.4,8.7 -4.4,-8.7 -6.6,-8.7 ; -3.8,-5 -3.8,5 3.8,5 3.8,-5 -3.8,-5 ; 4.4,-8.7 4.4,8.7 6.6,8.7 6.6,-8.7 4.4,-8.7 ; 7.2,-5 7.2,5 14.8,5 14.8,-5 7.2,-5 ; 15.4,-8.7 15.4,8.7 17.6,8.7 17.6,-8.7 15.4,-8.7 ; 18.2,-5 18.2,5 25.8,5 25.8,-5 18.2,-5 ; 26.4,-8.7 26.4,8.7 28.6,8.7 28.6,-8.7 26.4,-8.7 ; 29.2,-5 29.2,5 36.8,5 36.8,-5 29.2,-5 ; 37.4,-8.7 37.4,8.7 39.6,8.7 39.6,-8.7 37.4,-8.7
3D body "DG65C-B-02P.stp": height 18.05, standoff -6.24, extent 15.5,-8.65 39.5,8.65
3D body "DG65C-B-03P.stp": height 18.05, standoff -6.24, extent -17.5,-8.65 17.5,8.65
3D body "DG65C-B-02P.stp": height 18.05, standoff -6.24, extent -39.5,-8.65 -15.5,8.65

## DG65CB_08 [mm] "Terminal Block Screw, Pitch 11mm, 20A/300v, DG65C-B= KF65"
height 18
pads (8):
  round 3.5 / inner round 3.5 / far side oval 4x6 hole 2.4: 1(-38.5,0) 2(-27.5,0) 3(-16.5,0) 4(-5.5,0) 5(5.5,0) 6(16.5,0) 7(27.5,0) 8(38.5,0)
Top Overlay:
  circle w0.2: c38.5,0 r3
  circle w0.2: c27.5,0 r3
  circle w0.2: c16.5,0 r3
  circle w0.2: c5.5,0 r3
  circle w0.2: c-5.5,0 r3
  circle w0.2: c-16.5,0 r3
  circle w0.2: c-27.5,0 r3
  circle w0.2: c-38.5,0 r3
  rectangle: -42.5,-8.8 -41.3,-7.6
  lines w0.2: -42.9,-7.1 -34.1,-7.1 ; -42.9,7.1 -34.1,7.1 ; -42.3,-3.5 -34.7,-3.5 ; -42.3,3.5 -34.7,3.5 ; -31.9,-7.1 -23.1,-7.1 ; -31.9,7.1 -23.1,7.1 ; -31.3,-3.5 -23.7,-3.5 ; -31.3,3.5 -23.7,3.5 ; -20.9,-7.1 -12.1,-7.1 ; -20.9,7.1 -12.1,7.1 ; -20.3,-3.5 -12.7,-3.5 ; -20.3,3.5 -12.7,3.5 ; -9.9,-7.1 -1.1,-7.1 ; -9.9,7.1 -1.1,7.1 ; -9.3,-3.5 -1.7,-3.5 ; -9.3,3.5 -1.7,3.5 ; 1.1,-7.1 9.9,-7.1 ; 1.1,7.1 9.9,7.1 ; 1.7,-3.5 9.3,-3.5 ; 1.7,3.5 9.3,3.5 ; 12.1,-7.1 20.9,-7.1 ; 12.1,7.1 20.9,7.1 ; 12.7,-3.5 20.3,-3.5 ; 12.7,3.5 20.3,3.5 ; 23.1,-7.1 31.9,-7.1 ; 23.1,7.1 31.9,7.1 ; 23.7,-3.5 31.3,-3.5 ; 23.7,3.5 31.3,3.5 ; 34.1,-7.1 42.9,-7.1 ; 34.1,7.1 42.9,7.1 ; 34.7,-3.5 42.3,-3.5 ; 34.7,3.5 42.3,3.5 ; -45.1,-8.7 -42.9,-8.7 -42.9,8.7 -45.1,8.7 -45.1,-8.7 ; -42.3,-5 -34.7,-5 -34.7,5 -42.3,5 -42.3,-5 ; -34.1,-8.7 -34.1,8.7 -31.9,8.7 -31.9,-8.7 -34.1,-8.7 ; -31.3,-5 -31.3,5 -23.7,5 -23.7,-5 -31.3,-5 ; -23.1,-8.7 -23.1,8.7 -20.9,8.7 -20.9,-8.7 -23.1,-8.7 ; -20.3,-5 -20.3,5 -12.7,5 -12.7,-5 -20.3,-5 ; -12.1,-8.7 -12.1,8.7 -9.9,8.7 -9.9,-8.7 -12.1,-8.7 ; -9.3,-5 -9.3,5 -1.7,5 -1.7,-5 -9.3,-5 ; -1.1,-8.7 -1.1,8.7 1.1,8.7 1.1,-8.7 -1.1,-8.7 ; 1.7,-5 1.7,5 9.3,5 9.3,-5 1.7,-5 ; 9.9,-8.7 9.9,8.7 12.1,8.7 12.1,-8.7 9.9,-8.7 ; 12.7,-5 12.7,5 20.3,5 20.3,-5 12.7,-5 ; 20.9,-8.7 20.9,8.7 23.1,8.7 23.1,-8.7 20.9,-8.7 ; 23.7,-5 23.7,5 31.3,5 31.3,-5 23.7,-5 ; 31.9,-8.7 31.9,8.7 34.1,8.7 34.1,-8.7 31.9,-8.7 ; 34.7,-5 34.7,5 42.3,5 42.3,-5 34.7,-5 ; 42.9,-8.7 42.9,8.7 45.1,8.7 45.1,-8.7 42.9,-8.7
3D body "DG65C-B-03P.stp": height 18.05, standoff -6.24, extent 10,-8.65 45,8.65
3D body "DG65C-B-03P.stp": height 18.05, standoff -6.24, extent -23,-8.65 12,8.65
3D body "DG65C-B-02P.stp": height 18.05, standoff -6.24, extent -45,-8.65 -21,8.65

## DG65CB_09 [mm] "Terminal Block Screw, Pitch 11mm, 20A/300v, DG65C-B= KF65"
height 18
pads (9):
  round 3.5 / inner round 3.5 / far side oval 4x6 hole 2.4: 1(-44,0) 2(-33,0) 3(-22,0) 4(-11,0) 5(0,0) 6(11,0) 7(22,0) 8(33,0) 9(44,0)
Top Overlay:
  circle w0.2: c44,0 r3
  circle w0.2: c33,0 r3
  circle w0.2: c22,0 r3
  circle w0.2: c11,0 r3
  circle w0.2: c0,0 r3
  circle w0.2: c-11,0 r3
  circle w0.2: c-22,0 r3
  circle w0.2: c-33,0 r3
  circle w0.2: c-44,0 r3
  rectangle: -48,-8.8 -46.8,-7.6
  lines w0.2: -48.4,-7.1 -39.6,-7.1 ; -48.4,7.1 -39.6,7.1 ; -47.8,-3.5 -40.2,-3.5 ; -47.8,3.5 -40.2,3.5 ; -37.4,-7.1 -28.6,-7.1 ; -37.4,7.1 -28.6,7.1 ; -36.8,-3.5 -29.2,-3.5 ; -36.8,3.5 -29.2,3.5 ; -26.4,-7.1 -17.6,-7.1 ; -26.4,7.1 -17.6,7.1 ; -25.8,-3.5 -18.2,-3.5 ; -25.8,3.5 -18.2,3.5 ; -15.4,-7.1 -6.6,-7.1 ; -15.4,7.1 -6.6,7.1 ; -14.8,-3.5 -7.2,-3.5 ; -14.8,3.5 -7.2,3.5 ; -4.4,-7.1 4.4,-7.1 ; -4.4,7.1 4.4,7.1 ; -3.8,-3.5 3.8,-3.5 ; -3.8,3.5 3.8,3.5 ; 6.6,-7.1 15.4,-7.1 ; 6.6,7.1 15.4,7.1 ; 7.2,-3.5 14.8,-3.5 ; 7.2,3.5 14.8,3.5 ; 17.6,-7.1 26.4,-7.1 ; 17.6,7.1 26.4,7.1 ; 18.2,-3.5 25.8,-3.5 ; 18.2,3.5 25.8,3.5 ; 28.6,-7.1 37.4,-7.1 ; 28.6,7.1 37.4,7.1 ; 29.2,-3.5 36.8,-3.5 ; 29.2,3.5 36.8,3.5 ; 39.6,-7.1 48.4,-7.1 ; 39.6,7.1 48.4,7.1 ; 40.2,-3.5 47.8,-3.5 ; 40.2,3.5 47.8,3.5 ; -50.6,-8.7 -48.4,-8.7 -48.4,8.7 -50.6,8.7 -50.6,-8.7 ; -47.8,-5 -40.2,-5 -40.2,5 -47.8,5 -47.8,-5 ; -39.6,-8.7 -39.6,8.7 -37.4,8.7 -37.4,-8.7 -39.6,-8.7 ; -36.8,-5 -36.8,5 -29.2,5 -29.2,-5 -36.8,-5 ; -28.6,-8.7 -28.6,8.7 -26.4,8.7 -26.4,-8.7 -28.6,-8.7 ; -25.8,-5 -25.8,5 -18.2,5 -18.2,-5 -25.8,-5 ; -17.6,-8.7 -17.6,8.7 -15.4,8.7 -15.4,-8.7 -17.6,-8.7 ; -14.8,-5 -14.8,5 -7.2,5 -7.2,-5 -14.8,-5 ; -6.6,-8.7 -6.6,8.7 -4.4,8.7 -4.4,-8.7 -6.6,-8.7 ; -3.8,-5 -3.8,5 3.8,5 3.8,-5 -3.8,-5 ; 4.4,-8.7 4.4,8.7 6.6,8.7 6.6,-8.7 4.4,-8.7 ; 7.2,-5 7.2,5 14.8,5 14.8,-5 7.2,-5 ; 15.4,-8.7 15.4,8.7 17.6,8.7 17.6,-8.7 15.4,-8.7 ; 18.2,-5 18.2,5 25.8,5 25.8,-5 18.2,-5 ; 26.4,-8.7 26.4,8.7 28.6,8.7 28.6,-8.7 26.4,-8.7 ; 29.2,-5 29.2,5 36.8,5 36.8,-5 29.2,-5 ; 37.4,-8.7 37.4,8.7 39.6,8.7 39.6,-8.7 37.4,-8.7 ; 40.2,-5 40.2,5 47.8,5 47.8,-5 40.2,-5 ; 48.4,-8.7 48.4,8.7 50.6,8.7 50.6,-8.7 48.4,-8.7
3D body "DG65C-B-03P.stp": height 18.05, standoff -6.24, extent 15.5,-8.65 50.5,8.65
3D body "DG65C-B-03P.stp": height 18.05, standoff -6.24, extent -17.5,-8.65 17.5,8.65
3D body "DG65C-B-03P.stp": height 18.05, standoff -6.24, extent -50.5,-8.65 -15.5,8.65

## DG65CB_10 [mm] "Terminal Block Screw, Pitch 11mm, 20A/300v, DG65C-B= KF65"
height 18
pads (10):
  round 3.5 / inner round 3.5 / far side oval 4x6 hole 2.4: 1(-49.5,0) 2(-38.5,0) 3(-27.5,0) 4(-16.5,0) 5(-5.5,0) 6(5.5,0) 7(16.5,0) 8(27.5,0) 9(38.5,0) 10(49.5,0)
Top Overlay:
  circle w0.2: c49.5,0 r3
  circle w0.2: c38.5,0 r3
  circle w0.2: c27.5,0 r3
  circle w0.2: c16.5,0 r3
  circle w0.2: c5.5,0 r3
  circle w0.2: c-5.5,0 r3
  circle w0.2: c-16.5,0 r3
  circle w0.2: c-27.5,0 r3
  circle w0.2: c-38.5,0 r3
  circle w0.2: c-49.5,0 r3
  rectangle: -53.5,-8.8 -52.3,-7.6
  lines w0.2: -53.9,-7.1 -45.1,-7.1 ; -53.9,7.1 -45.1,7.1 ; -53.3,-3.5 -45.7,-3.5 ; -53.3,3.5 -45.7,3.5 ; -42.9,-7.1 -34.1,-7.1 ; -42.9,7.1 -34.1,7.1 ; -42.3,-3.5 -34.7,-3.5 ; -42.3,3.5 -34.7,3.5 ; -31.9,-7.1 -23.1,-7.1 ; -31.9,7.1 -23.1,7.1 ; -31.3,-3.5 -23.7,-3.5 ; -31.3,3.5 -23.7,3.5 ; -20.9,-7.1 -12.1,-7.1 ; -20.9,7.1 -12.1,7.1 ; -20.3,-3.5 -12.7,-3.5 ; -20.3,3.5 -12.7,3.5 ; -9.9,-7.1 -1.1,-7.1 ; -9.9,7.1 -1.1,7.1 ; -9.3,-3.5 -1.7,-3.5 ; -9.3,3.5 -1.7,3.5 ; 1.1,-7.1 9.9,-7.1 ; 1.1,7.1 9.9,7.1 ; 1.7,-3.5 9.3,-3.5 ; 1.7,3.5 9.3,3.5 ; 12.1,-7.1 20.9,-7.1 ; 12.1,7.1 20.9,7.1 ; 12.7,-3.5 20.3,-3.5 ; 12.7,3.5 20.3,3.5 ; 23.1,-7.1 31.9,-7.1 ; 23.1,7.1 31.9,7.1 ; 23.7,-3.5 31.3,-3.5 ; 23.7,3.5 31.3,3.5 ; 34.1,-7.1 42.9,-7.1 ; 34.1,7.1 42.9,7.1 ; 34.7,-3.5 42.3,-3.5 ; 34.7,3.5 42.3,3.5 ; 45.1,-7.1 53.9,-7.1 ; 45.1,7.1 53.9,7.1 ; 45.7,-3.5 53.3,-3.5 ; 45.7,3.5 53.3,3.5 ; -56.1,-8.7 -53.9,-8.7 -53.9,8.7 -56.1,8.7 -56.1,-8.7 ; -53.3,-5 -45.7,-5 -45.7,5 -53.3,5 -53.3,-5 ; -45.1,-8.7 -45.1,8.7 -42.9,8.7 -42.9,-8.7 -45.1,-8.7 ; -42.3,-5 -42.3,5 -34.7,5 -34.7,-5 -42.3,-5 ; -34.1,-8.7 -34.1,8.7 -31.9,8.7 -31.9,-8.7 -34.1,-8.7 ; -31.3,-5 -31.3,5 -23.7,5 -23.7,-5 -31.3,-5 ; -23.1,-8.7 -23.1,8.7 -20.9,8.7 -20.9,-8.7 -23.1,-8.7 ; -20.3,-5 -20.3,5 -12.7,5 -12.7,-5 -20.3,-5 ; -12.1,-8.7 -12.1,8.7 -9.9,8.7 -9.9,-8.7 -12.1,-8.7 ; -9.3,-5 -9.3,5 -1.7,5 -1.7,-5 -9.3,-5 ; -1.1,-8.7 -1.1,8.7 1.1,8.7 1.1,-8.7 -1.1,-8.7 ; 1.7,-5 1.7,5 9.3,5 9.3,-5 1.7,-5 ; 9.9,-8.7 9.9,8.7 12.1,8.7 12.1,-8.7 9.9,-8.7 ; 12.7,-5 12.7,5 20.3,5 20.3,-5 12.7,-5 ; 20.9,-8.7 20.9,8.7 23.1,8.7 23.1,-8.7 20.9,-8.7 ; 23.7,-5 23.7,5 31.3,5 31.3,-5 23.7,-5 ; 31.9,-8.7 31.9,8.7 34.1,8.7 34.1,-8.7 31.9,-8.7 ; 34.7,-5 34.7,5 42.3,5 42.3,-5 34.7,-5 ; 42.9,-8.7 42.9,8.7 45.1,8.7 45.1,-8.7 42.9,-8.7 ; 45.7,-5 45.7,5 53.3,5 53.3,-5 45.7,-5 ; 53.9,-8.7 53.9,8.7 56.1,8.7 56.1,-8.7 53.9,-8.7
3D body "DG65C-B-03P.stp": height 18.05, standoff -6.24, extent 21,-8.65 56,8.65
3D body "DG65C-B-02P.stp": height 18.05, standoff -6.24, extent -1,-8.65 23,8.65
3D body "DG65C-B-03P.stp": height 18.05, standoff -6.24, extent -34,-8.65 1,8.65
3D body "DG65C-B-02P.stp": height 18.05, standoff -6.24, extent -56,-8.65 -32,8.65